# EAGLE library part ONION_OMEGA (library onion_omega)
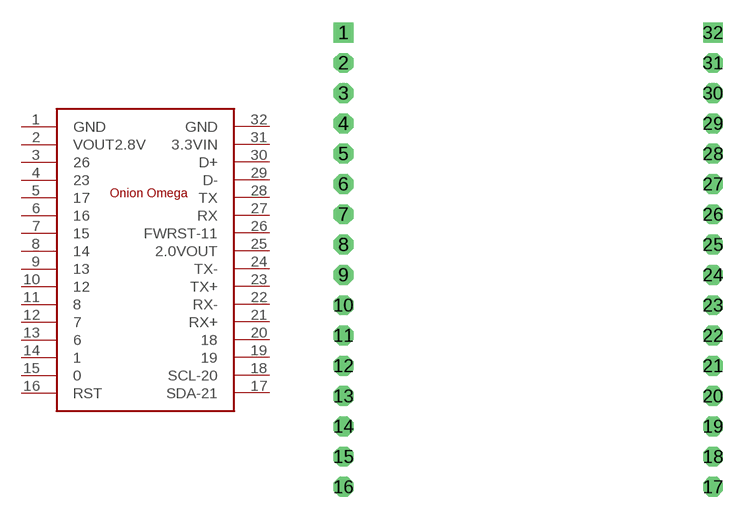
[diagram p0: symbol with the pads of ONION_OMEGA; footprint ONION_OMEGA]

Designator prefix -

## ONION_OMEGA  [ONION_OMEGA]
1  GND
2  VOUT2.8V
3  26
4  23
5  17
6  16
7  15
8  14
9  13
10  12
11  8
12  7
13  6
14  1
15  0
16  RST
17  SDA-21
18  SCL-20
19  19
20  18
21  RX+
22  RX-
23  TX+
24  TX-
25  2.0VOUT
26  FWRST-11
27  RX
28  TX
29  D-
30  D+
31  3.3VIN
32  GND

## Footprint ONION_OMEGA (pad centres in mm)
drill 0.8 square: 1 -12.2,15; 32 12.2,15
drill 0.8 octagon: 2 -12.2,13; 3 -12.2,11; 4 -12.2,9; 5 -12.2,7; 6 -12.2,5; 7 -12.2,3; 8 -12.2,1; 9 -12.2,-1; 10 -12.2,-3; 11 -12.2,-5; 12 -12.2,-7; 13 -12.2,-9; 14 -12.2,-11; 15 -12.2,-13; 16 -12.2,-15; 17 12.2,-15; 18 12.2,-13; 19 12.2,-11; 20 12.2,-9; 21 12.2,-7; 22 12.2,-5; 23 12.2,-3; 24 12.2,-1; 25 12.2,1; 26 12.2,3; 27 12.2,5; 28 12.2,7; 29 12.2,9; 30 12.2,11; 31 12.2,13